# EAGLE library part KSZ805 (library Semur-DigitalIC)
MICREL KSZ8051 10Base-T/100Base-TX Physical Layer Transceiver The KSZ8051/8031/8021 series is a low-power, small package 10/100 Physical (PHY) Layer Transceiver that provides the MII interface or the RMII interface to transmit and receive data over standard CAT-5 unshielded twisted pair (UTP) cable or fiber. This PHY device is based on an enhanced mix-signal design and 0.13um CMOS technology, which enable a new level of features, low power consumption and high performance in a very compact package. It is the ideal choice of physical layer transceiver for adding powerefficient 10/100 Ethernet connectivity to digital TV, IP Set Top Box, Game console, industrial and automotive applications. On-chip termination resistors and integrated regulator simplifies board layout while reducing the system BOM. The digital I/O interface supports 1.8V, 2.5V, and 3.3V voltage levels, offering flexibility in design. A suite of power-down and power-saving modes helps to further reduce power in various operating conditions. This PHY device also provides patented techniques for lower EMI.
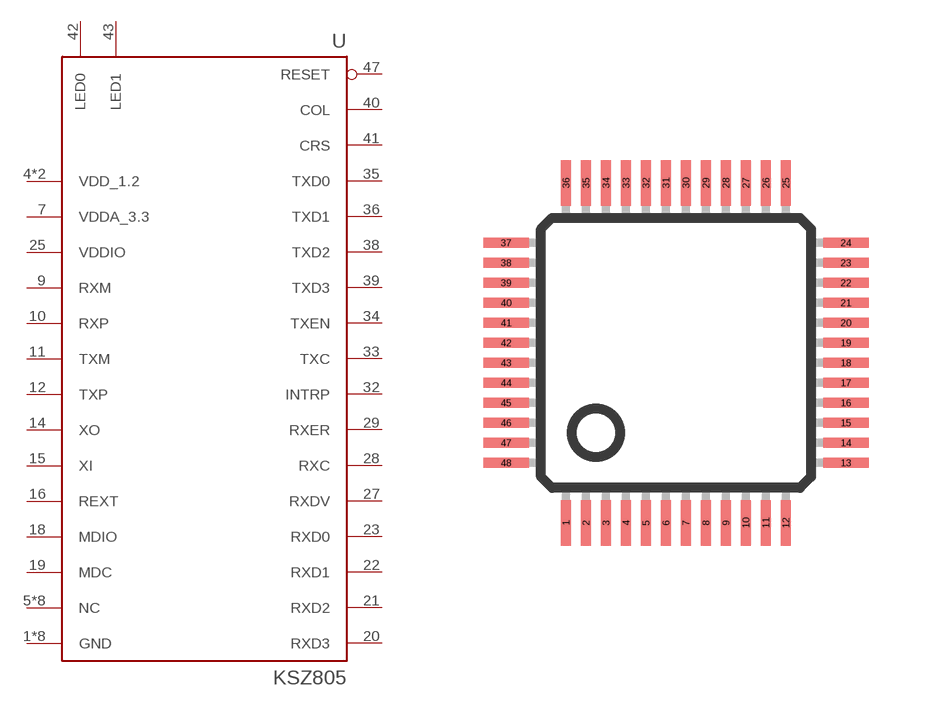
[diagram p0: symbol with the pads of LQFP48; footprint LQFP48]

Designator prefix -

## KSZ805MLL  [LQFP48]
1  GND  pwr
2  GND  pwr
3  GND  pwr
4  VDD_1.2  pwr
5  NC  nc
6  NC  nc
7  VDDA_3.3  pwr
8  NC  nc
9  RXM
10  RXP
11  TXM
12  TXP
13  GND  pwr
14  XO
15  XI
16  REXT
17  GND  pwr
18  MDIO
19  MDC
20  RXD3
21  RXD2
22  RXD1
23  RXD0
24  GND  pwr
25  VDDIO  pwr
26  NC  nc
27  RXDV
28  RXC
29  RXER
30  GND  pwr
31  VDD_1.2  pwr
32  INTRP
33  TXC
34  TXEN
35  TXD0
36  TXD1
37  GND  pwr
38  TXD2
39  TXD3
40  COL
41  CRS
42  LED0
43  LED1
44  NC  nc
45  NC  nc
46  NC  nc
47  RESET
48  NC  nc

## Footprint LQFP48 (pad centres in mm)
smd 0.254 x 1.143: 1 -2.75,-4.25; 2 -2.25,-4.25; 3 -1.75,-4.25; 4 -1.25,-4.25; 5 -0.75,-4.25; 6 -0.25,-4.25; 7 0.25,-4.25; 8 0.75,-4.25; 9 1.25,-4.25; 10 1.75,-4.25; 11 2.25,-4.25; 12 2.75,-4.25; 25 2.75,4.25; 26 2.25,4.25; 27 1.75,4.25; 28 1.25,4.25; 29 0.75,4.25; 30 0.25,4.25; 31 -0.25,4.25; 32 -0.75,4.25; 33 -1.25,4.25; 34 -1.75,4.25; 35 -2.25,4.25; 36 -2.75,4.25
smd 1.143 x 0.254: 13 4.25,-2.75; 14 4.25,-2.25; 15 4.25,-1.75; 16 4.25,-1.25; 17 4.25,-0.75; 18 4.25,-0.25; 19 4.25,0.25; 20 4.25,0.75; 21 4.25,1.25; 22 4.25,1.75; 23 4.25,2.25; 24 4.25,2.75; 37 -4.25,2.75; 38 -4.25,2.25; 39 -4.25,1.75; 40 -4.25,1.25; 41 -4.25,0.75; 42 -4.25,0.25; 43 -4.25,-0.25; 44 -4.25,-0.75; 45 -4.25,-1.25; 46 -4.25,-1.75; 47 -4.25,-2.25; 48 -4.25,-2.75